# Altium schematic symbol library CamContr.SCHLIB: 42 symbols
Pins are listed as number, name and electrical type; pins without a type are passive.

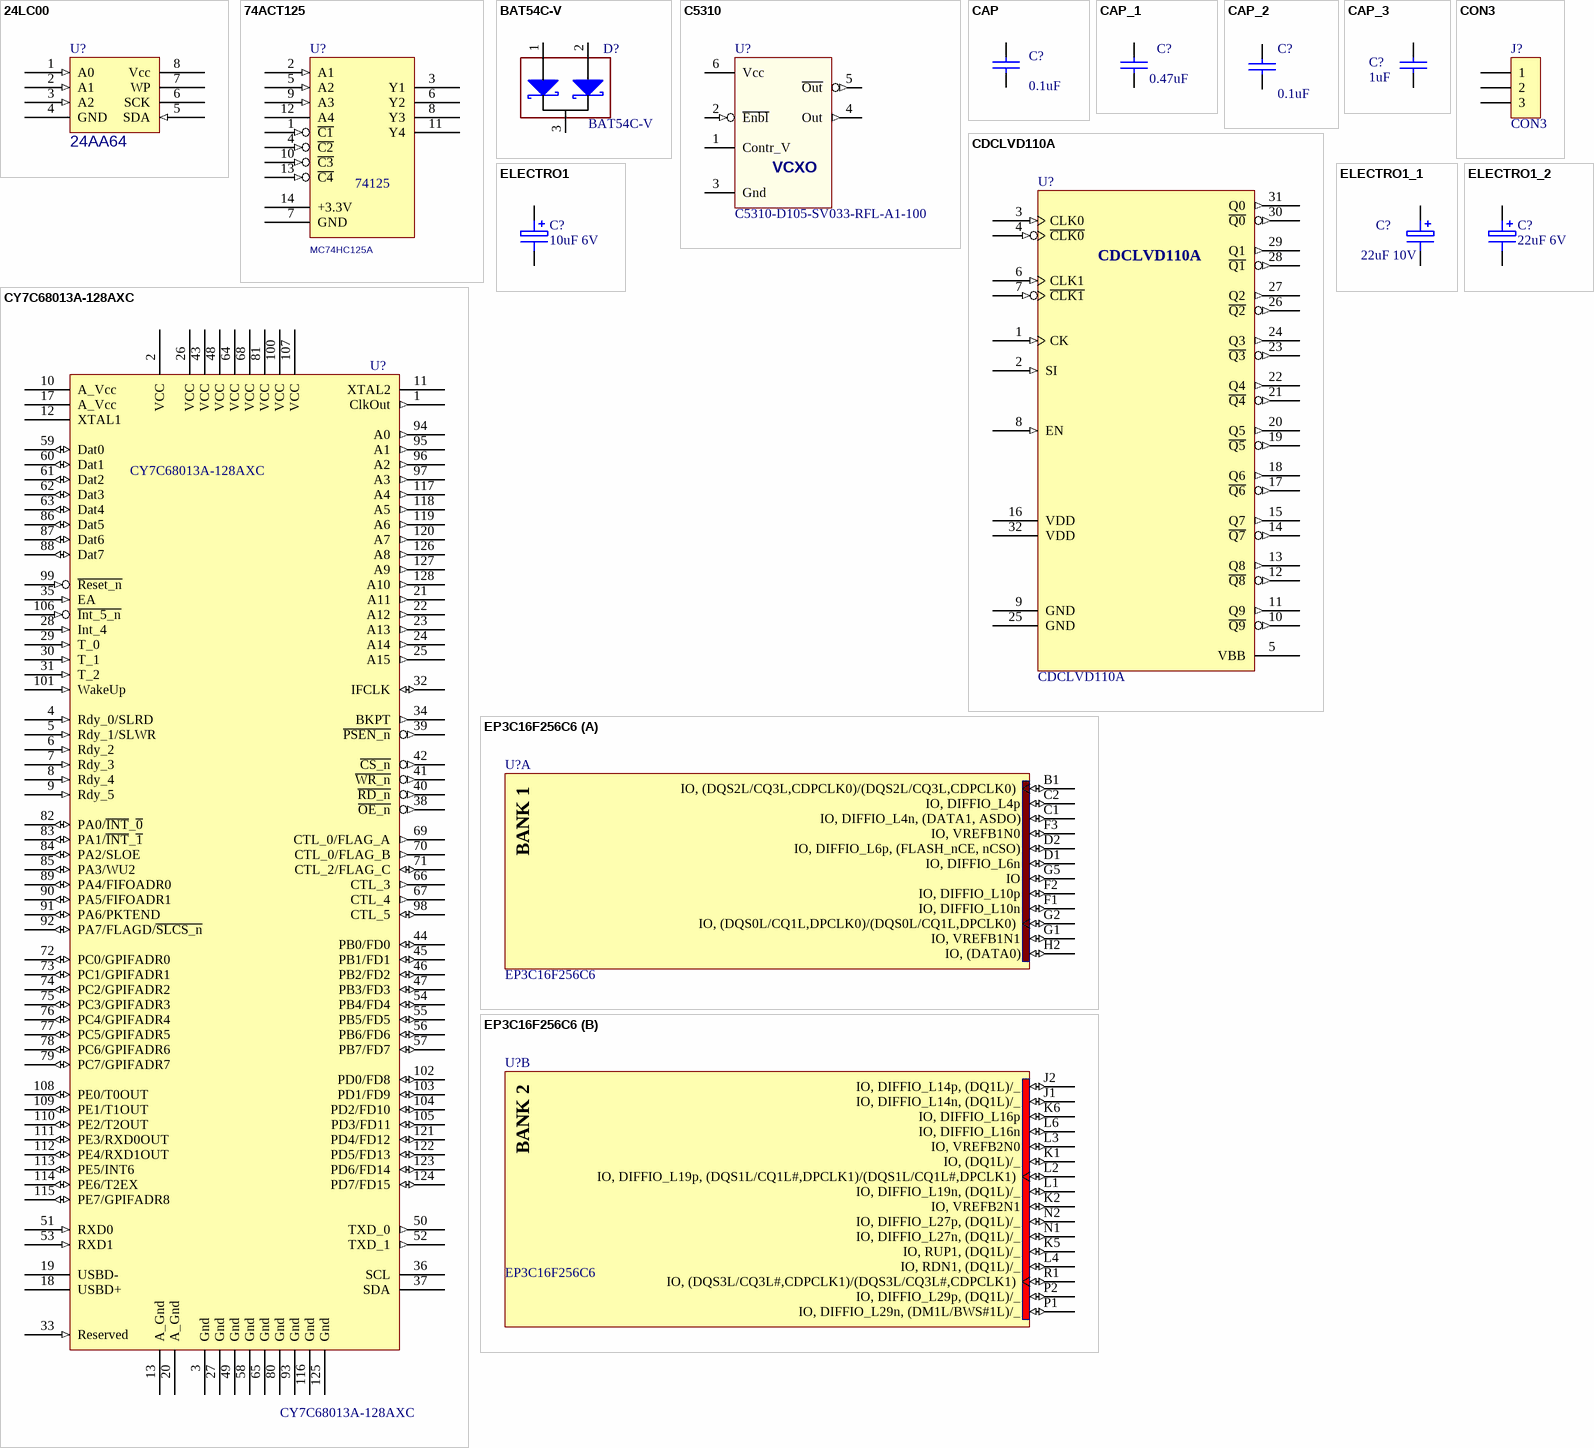
[diagram p0: symbols 24LC00 to EP3C16F256C6]

## 24LC00
designator U?, comment 24AA64
footprint DIP-8
pins: 1 A0 (in), 2 A1 (in), 3 A2 (in), 4 GND (power), 5 SDA (in), 6 SCK, 7 WP, 8 Vcc (power)

## 74ACT125
designator U?, comment MC74HC125A
footprint SO-14
pins: 1 ~{C1} (in), 2 A1 (in), 3 Y1 (hiz), 4 ~{C2} (in), 5 A2 (in), 6 Y2 (hiz), 7 GND (power), 8 Y3 (hiz), 9 A3 (in), 10 ~{C3} (in), 11 Y4 (hiz), 12 A4, 13 ~{C4} (in), 14 +3.3V (power)
text: 74125

## BAT54C-V
designator D?
footprint BAT54C-V (Footprint not found)
pins: 1, 2, 3

## C5310
designator U?, comment C5310-D105-SV033-RFL-A1-100
footprint G218B (Footprint not found)
pins: 1 Contr_V, 2 ~{Enbl} (in), 3 Gnd (power), 4 Out (out), 5 ~{Out} (out), 6 Vcc (power)
text: VCXO

## CAP
designator C?, comment 0.1uF
footprint 0603 (Footprint not found)
pins: 1, 2

## CAP_1
designator C?, comment 0.47uF
footprint 0805
pins: 1, 2

## CAP_2
designator C?, comment 0.1uF
Capacitor
footprint 0603 (Footprint not found)
pins: 1, 2

## CAP_3
designator C?, comment 1uF
Capacitor
footprint 1206
pins: 1, 2

## CDCLVD110A
designator U?
footprint S-PQFP-G32 (Footprint not found)
pins: 1 CK (in), 2 SI (in), 3 CLK0 (in), 4 ~{CLK0} (in), 5 VBB, 6 CLK1 (in), 7 ~{CLK1} (in), 8 EN (in), 9 GND (power), 10 ~{Q9} (out), 11 Q9 (out), 12 ~{Q8} (out), 13 Q8 (out), 14 ~{Q7} (out), 15 Q7 (out), 16 VDD (power), 17 ~{Q6} (out), 18 Q6 (out), 19 ~{Q5} (out), 20 Q5 (out), 21 ~{Q4} (out), 22 Q4 (out), 23 ~{Q3} (out), 24 Q3 (out), 25 GND (power), 26 ~{Q2} (out), 27 Q2 (out), 28 ~{Q1} (out), 29 Q1 (out), 30 ~{Q0} (out), 31 Q0 (out), 32 VDD (power)

## CON3
designator J?
Connector
footprint Header-3x1
pins: 1, 2, 3

## CY7C68013A-128AXC
designator U?
footprint PQFP-128 (Footprint not found)
pins: 1 ClkOut (out), 2 VCC (power), 3 Gnd (power), 4 Rdy_0/SLRD (in), 5 Rdy_1/SLWR (in), 6 Rdy_2 (in), 7 Rdy_3 (in), 8 Rdy_4 (in), 9 Rdy_5 (in), 10 A_Vcc (power), 11 XTAL2, 12 XTAL1, 13 A_Gnd (power), 17 A_Vcc (power), 18 USBD+, 19 USBD-, 20 A_Gnd (power), 21 A11 (out), 22 A12 (out), 23 A13 (out), 24 A14 (out), 25 A15 (out), 26 VCC (power), 27 Gnd (power), 28 Int_4 (in), 29 T_0 (in), 30 T_1 (in), 31 T_2 (in), 32 IFCLK (io), 33 Reserved (in), 34 BKPT (out), 35 EA (in), 36 SCL (oc), 37 SDA (oc), 38 ~{OE_n} (out), 39 ~{PSEN_n} (out), 40 ~{RD_n} (out), 41 ~{WR_n} (out), 42 ~{CS_n} (out), 43 VCC (power), 44 PB0/FD0 (io), 45 PB1/FD1 (io), 46 PB2/FD2 (io), 47 PB3/FD3 (io), 48 VCC (power), 49 Gnd (power), 50 TXD_0 (out), 51 RXD0 (in), 52 TXD_1 (out), 53 RXD1 (in), 54 PB4/FD4 (io), 55 PB5/FD5 (io), 56 PB6/FD6 (io), 57 PB7/FD7 (io), 58 Gnd (power), 59 Dat0 (io), 60 Dat1 (io), 61 Dat2 (io), 62 Dat3 (io), 63 Dat4 (io), 64 VCC (power), 65 Gnd (power), 66 CTL_3 (out), 67 CTL_4 (out), 68 VCC (power), 69 CTL_0/FLAG_A (out), 70 CTL_0/FLAG_B (out), 71 CTL_2/FLAG_C (io), 72 PC0/GPIFADR0 (io), 73 PC1/GPIFADR1 (io), 74 PC2/GPIFADR2 (io), 75 PC3/GPIFADR3 (io), 76 PC4/GPIFADR4 (io), 77 PC5/GPIFADR5 (io), 78 PC6/GPIFADR6 (io), 79 PC7/GPIFADR7 (io), 80 Gnd (power), 81 VCC (power), 82 PA0/~{INT}_~{0} (io), 83 PA1/~{INT}_~{1} (io), 84 PA2/SLOE (io), 85 PA3/WU2 (io), 86 Dat5 (io), 87 Dat6 (io), 88 Dat7 (io), 89 PA4/FIFOADR0 (io), 90 PA5/FIFOADR1 (io), 91 PA6/PKTEND (io), 92 PA7/FLAGD/~{SLCS_n} (io), 93 Gnd (power), 94 A0 (out), 95 A1 (out), 96 A2 (out), 97 A3 (out), 98 CTL_5 (io), 99 ~{Reset_n} (in), 100 VCC (power), 101 WakeUp (in), 102 PD0/FD8 (io), 103 PD1/FD9 (io), 104 PD2/FD10 (io), 105 PD3/FD11 (io), 106 ~{Int_5_n} (in), 107 VCC (power), 108 PE0/T0OUT (io), 109 PE1/T1OUT (io), 110 PE2/T2OUT (io), 111 PE3/RXD0OUT (io), 112 PE4/RXD1OUT (io), 113 PE5/INT6 (io), 114 PE6/T2EX (io), 115 PE7/GPIFADR8 (io), 116 Gnd (power), 117 A4 (out), 118 A5 (out), 119 A6 (out), 120 A7 (out), 121 PD4/FD12 (io), 122 PD5/FD13 (io), 123 PD6/FD14 (io), 124 PD7/FD15 (io), 125 Gnd (power), 126 A8 (out), 127 A9 (out), 128 A10 (out)

## ELECTRO1
designator C?, comment 10uF 6V
footprint size a (Footprint not found)
pins: 1, 2

## ELECTRO1_1
designator C?, comment 22uF 10V
footprint Size B
pins: 1, 2

## ELECTRO1_2
designator C?, comment 22uF 6V
footprint B-Size (Footprint not found)
pins: 1, 2

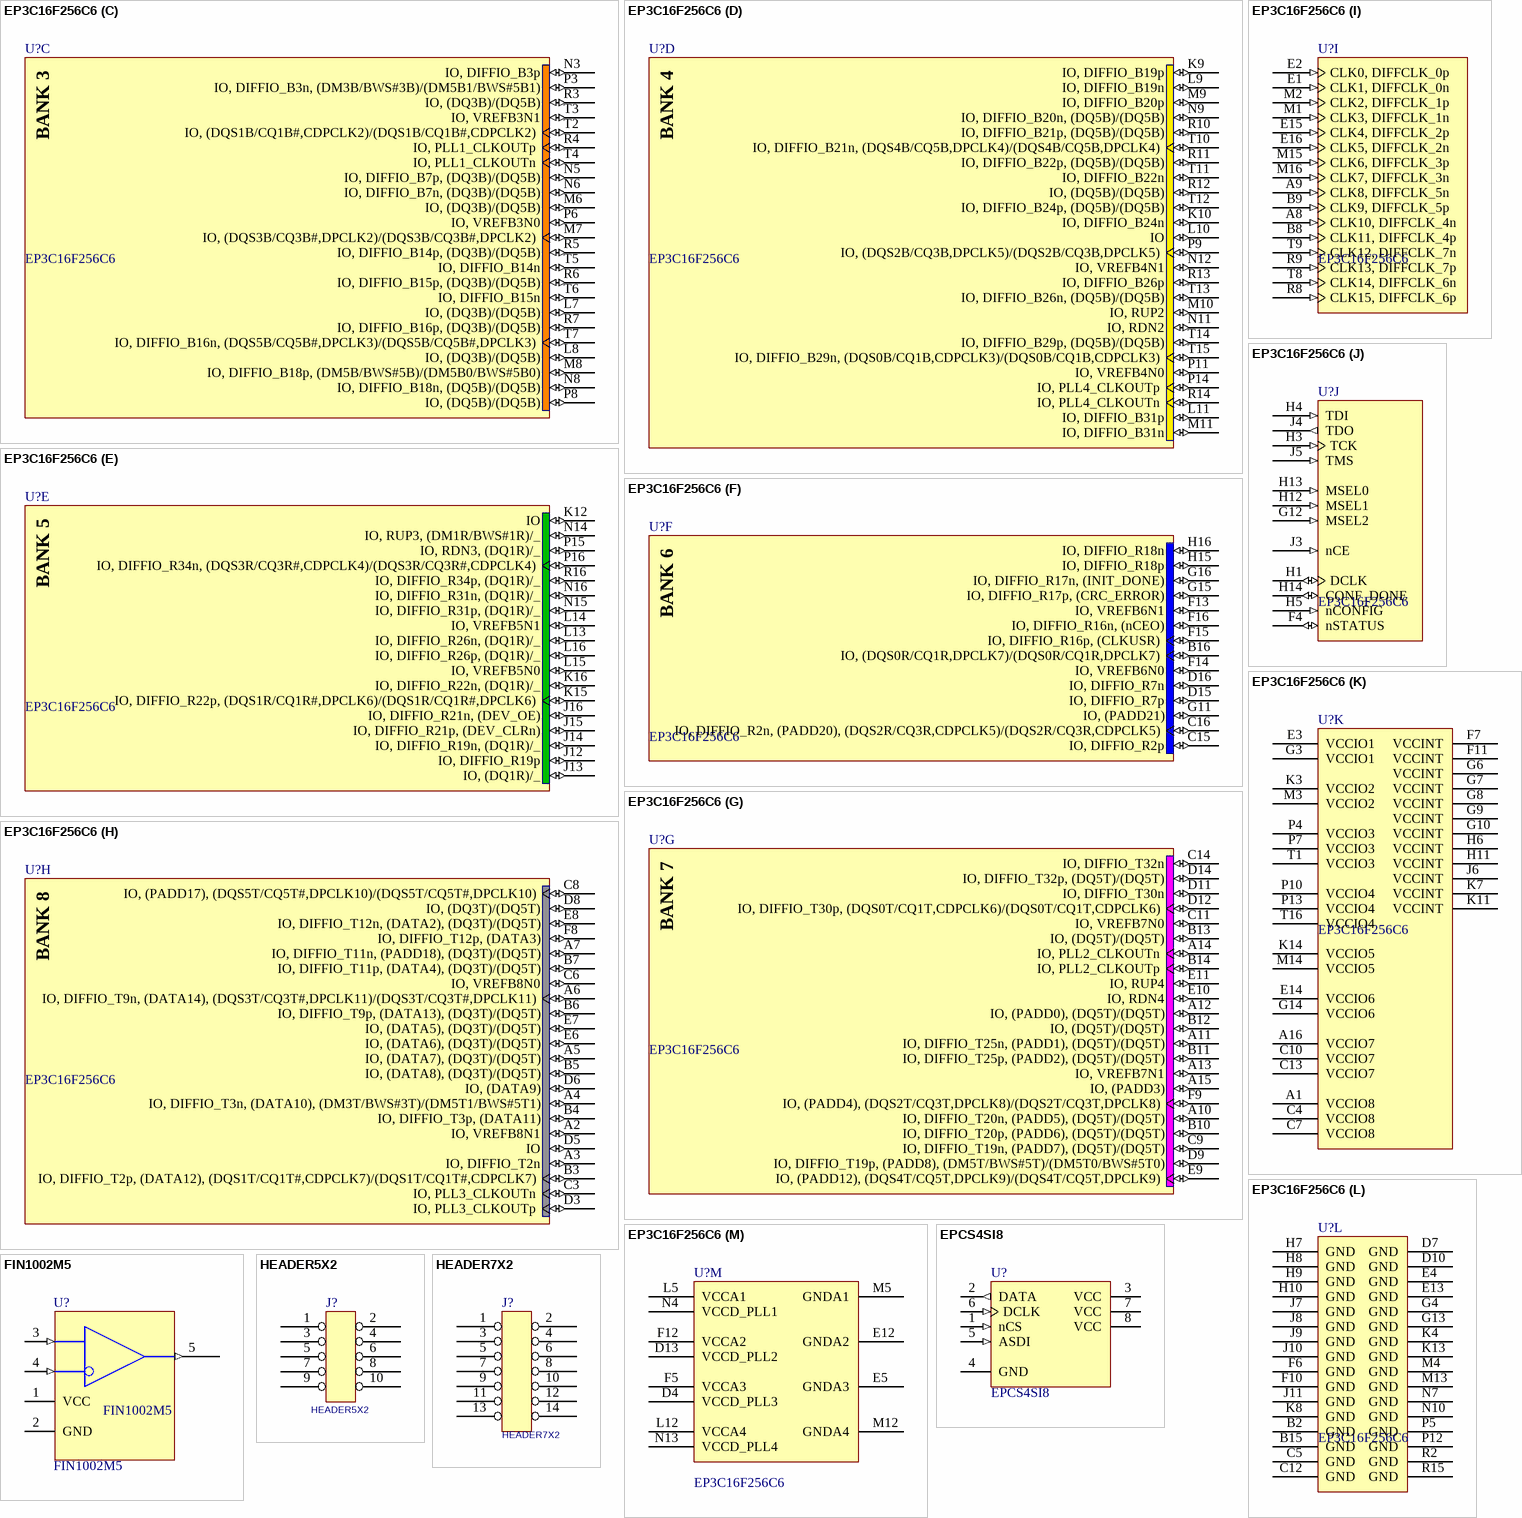
[diagram p1: symbols EP3C16F256C6 to HEADER7X2]

## EP3C16F256C6
designator U?
Cyclone III Family FPGA, 152 I/O Pins, 4 PLLs, 256-Pin FBGA, Speed Grade 6, Commercial Grade; Published: 26-Feb-2007; PackageVersion: ver14.5, Dec-2006; PackageReference: FBGA256-2; Publisher: Altium Limited; PackageDescription: 256-Ball FineLine Ball Grid Array (FBGA256) - Option 2 - Wire Bond; Code_JEDEC: MO-192-DAF-1; ComponentLink1Description: Manufacturer Link; ComponentLink1URL: http://www.altera.com/
footprint FBGA256-2 (BGA, 256-Leads, Body 17x17mm, Pitch 1mm)
3D model EP3C16-FBGA256-2 (256-Ball FineLine Ball Grid Array (FBGA256) - Option 2 - Wire Bond)
signal-integrity model EP3C16_F256-2 (Cyclone III)
part A pins: B1 IO, (DQS2L/CQ3L,CDPCLK0)/(DQS2L/CQ3L,CDPCLK0) (io), C1 IO, DIFFIO_L4n, (DATA1, ASDO) (io), C2 IO, DIFFIO_L4p (io), D1 IO, DIFFIO_L6n (io), D2 IO, DIFFIO_L6p, (FLASH_nCE, nCSO) (io), F1 IO, DIFFIO_L10n (io), F2 IO, DIFFIO_L10p (io), F3 IO, VREFB1N0 (io), G1 IO, VREFB1N1 (io), G2 IO, (DQS0L/CQ1L,DPCLK0)/(DQS0L/CQ1L,DPCLK0) (io), G5 IO (io), H2 IO, (DATA0) (io)
part B pins: J1 IO, DIFFIO_L14n, (DQ1L)/_ (io), J2 IO, DIFFIO_L14p, (DQ1L)/_ (io), K1 IO, (DQ1L)/_ (io), K2 IO, VREFB2N1 (io), K5 IO, RUP1, (DQ1L)/_ (io), K6 IO, DIFFIO_L16p (io), L1 IO, DIFFIO_L19n, (DQ1L)/_ (io), L2 IO, DIFFIO_L19p, (DQS1L/CQ1L#,DPCLK1)/(DQS1L/CQ1L#,DPCLK1) (io), L3 IO, VREFB2N0 (io), L4 IO, RDN1, (DQ1L)/_ (io), L6 IO, DIFFIO_L16n (io), N1 IO, DIFFIO_L27n, (DQ1L)/_ (io), N2 IO, DIFFIO_L27p, (DQ1L)/_ (io), P1 IO, DIFFIO_L29n, (DM1L/BWS#1L)/_ (io), P2 IO, DIFFIO_L29p, (DQ1L)/_ (io), R1 IO, (DQS3L/CQ3L#,CDPCLK1)/(DQS3L/CQ3L#,CDPCLK1) (io)
part C pins: L7 IO, (DQ3B)/(DQ5B) (io), L8 IO, (DQ3B)/(DQ5B) (io), M6 IO, (DQ3B)/(DQ5B) (io), M7 IO, (DQS3B/CQ3B#,DPCLK2)/(DQS3B/CQ3B#,DPCLK2) (io), M8 IO, DIFFIO_B18p, (DM5B/BWS#5B)/(DM5B0/BWS#5B0) (io), N3 IO, DIFFIO_B3p (io), N5 IO, DIFFIO_B7p, (DQ3B)/(DQ5B) (io), N6 IO, DIFFIO_B7n, (DQ3B)/(DQ5B) (io), N8 IO, DIFFIO_B18n, (DQ5B)/(DQ5B) (io), P3 IO, DIFFIO_B3n, (DM3B/BWS#3B)/(DM5B1/BWS#5B1) (io), P6 IO, VREFB3N0 (io), P8 IO, (DQ5B)/(DQ5B) (io), R3 IO, (DQ3B)/(DQ5B) (io), R4 IO, PLL1_CLKOUTp (io), R5 IO, DIFFIO_B14p, (DQ3B)/(DQ5B) (io), R6 IO, DIFFIO_B15p, (DQ3B)/(DQ5B) (io), R7 IO, DIFFIO_B16p, (DQ3B)/(DQ5B) (io), T2 IO, (DQS1B/CQ1B#,CDPCLK2)/(DQS1B/CQ1B#,CDPCLK2) (io), T3 IO, VREFB3N1 (io), T4 IO, PLL1_CLKOUTn (io), T5 IO, DIFFIO_B14n (io), T6 IO, DIFFIO_B15n (io), T7 IO, DIFFIO_B16n, (DQS5B/CQ5B#,DPCLK3)/(DQS5B/CQ5B#,DPCLK3) (io)
part D pins: K9 IO, DIFFIO_B19p (io), K10 IO, DIFFIO_B24n (io), L9 IO, DIFFIO_B19n (io), L10 IO (io), L11 IO, DIFFIO_B31p (io), M9 IO, DIFFIO_B20p (io), M10 IO, RUP2 (io), M11 IO, DIFFIO_B31n (io), N9 IO, DIFFIO_B20n, (DQ5B)/(DQ5B) (io), N11 IO, RDN2 (io), N12 IO, VREFB4N1 (io), P9 IO, (DQS2B/CQ3B,DPCLK5)/(DQS2B/CQ3B,DPCLK5) (io), P11 IO, VREFB4N0 (io), P14 IO, PLL4_CLKOUTp (io), R10 IO, DIFFIO_B21p, (DQ5B)/(DQ5B) (io), R11 IO, DIFFIO_B22p, (DQ5B)/(DQ5B) (io), R12 IO, (DQ5B)/(DQ5B) (io), R13 IO, DIFFIO_B26p (io), R14 IO, PLL4_CLKOUTn (io), T10 IO, DIFFIO_B21n, (DQS4B/CQ5B,DPCLK4)/(DQS4B/CQ5B,DPCLK4) (io), T11 IO, DIFFIO_B22n (io), T12 IO, DIFFIO_B24p, (DQ5B)/(DQ5B) (io), T13 IO, DIFFIO_B26n, (DQ5B)/(DQ5B) (io), T14 IO, DIFFIO_B29p, (DQ5B)/(DQ5B) (io), T15 IO, DIFFIO_B29n, (DQS0B/CQ1B,CDPCLK3)/(DQS0B/CQ1B,CDPCLK3) (io)
part E pins: J12 IO, DIFFIO_R19p (io), J13 IO, (DQ1R)/_ (io), J14 IO, DIFFIO_R19n, (DQ1R)/_ (io), J15 IO, DIFFIO_R21p, (DEV_CLRn) (io), J16 IO, DIFFIO_R21n, (DEV_OE) (io), K12 IO (io), K15 IO, DIFFIO_R22p, (DQS1R/CQ1R#,DPCLK6)/(DQS1R/CQ1R#,DPCLK6) (io), K16 IO, DIFFIO_R22n, (DQ1R)/_ (io), L13 IO, DIFFIO_R26n, (DQ1R)/_ (io), L14 IO, VREFB5N1 (io), L15 IO, VREFB5N0 (io), L16 IO, DIFFIO_R26p, (DQ1R)/_ (io), N14 IO, RUP3, (DM1R/BWS#1R)/_ (io), N15 IO, DIFFIO_R31p, (DQ1R)/_ (io), N16 IO, DIFFIO_R31n, (DQ1R)/_ (io), P15 IO, RDN3, (DQ1R)/_ (io), P16 IO, DIFFIO_R34n, (DQS3R/CQ3R#,CDPCLK4)/(DQS3R/CQ3R#,CDPCLK4) (io), R16 IO, DIFFIO_R34p, (DQ1R)/_ (io)
part F pins: B16 IO, (DQS0R/CQ1R,DPCLK7)/(DQS0R/CQ1R,DPCLK7) (io), C15 IO, DIFFIO_R2p (io), C16 IO, DIFFIO_R2n, (PADD20), (DQS2R/CQ3R,CDPCLK5)/(DQS2R/CQ3R,CDPCLK5) (io), D15 IO, DIFFIO_R7p (io), D16 IO, DIFFIO_R7n (io), F13 IO, VREFB6N1 (io), F14 IO, VREFB6N0 (io), F15 IO, DIFFIO_R16p, (CLKUSR) (io), F16 IO, DIFFIO_R16n, (nCEO) (io), G11 IO, (PADD21) (io), G15 IO, DIFFIO_R17p, (CRC_ERROR) (io), G16 IO, DIFFIO_R17n, (INIT_DONE) (io), H15 IO, DIFFIO_R18p (io), H16 IO, DIFFIO_R18n (io)
part G pins: A10 IO, DIFFIO_T20n, (PADD5), (DQ5T)/(DQ5T) (io), A11 IO, DIFFIO_T25n, (PADD1), (DQ5T)/(DQ5T) (io), A12 IO, (PADD0), (DQ5T)/(DQ5T) (io), A13 IO, VREFB7N1 (io), A14 IO, PLL2_CLKOUTn (io), A15 IO, (PADD3) (io), B10 IO, DIFFIO_T20p, (PADD6), (DQ5T)/(DQ5T) (io), B11 IO, DIFFIO_T25p, (PADD2), (DQ5T)/(DQ5T) (io), B12 IO, (DQ5T)/(DQ5T) (io), B13 IO, (DQ5T)/(DQ5T) (io), B14 IO, PLL2_CLKOUTp (io), C9 IO, DIFFIO_T19n, (PADD7), (DQ5T)/(DQ5T) (io), C11 IO, VREFB7N0 (io), C14 IO, DIFFIO_T32n (io), D9 IO, DIFFIO_T19p, (PADD8), (DM5T/BWS#5T)/(DM5T0/BWS#5T0) (io), D11 IO, DIFFIO_T30n (io), D12 IO, DIFFIO_T30p, (DQS0T/CQ1T,CDPCLK6)/(DQS0T/CQ1T,CDPCLK6) (io), D14 IO, DIFFIO_T32p, (DQ5T)/(DQ5T) (io), E9 IO, (PADD12), (DQS4T/CQ5T,DPCLK9)/(DQS4T/CQ5T,DPCLK9) (io), E10 IO, RDN4 (io), E11 IO, RUP4 (io), F9 IO, (PADD4), (DQS2T/CQ3T,DPCLK8)/(DQS2T/CQ3T,DPCLK8) (io)
part H pins: A2 IO, VREFB8N1 (io), A3 IO, DIFFIO_T2n (io), A4 IO, DIFFIO_T3n, (DATA10), (DM3T/BWS#3T)/(DM5T1/BWS#5T1) (io), A5 IO, (DATA7), (DQ3T)/(DQ5T) (io), A6 IO, DIFFIO_T9n, (DATA14), (DQS3T/CQ3T#,DPCLK11)/(DQS3T/CQ3T#,DPCLK11) (io), A7 IO, DIFFIO_T11n, (PADD18), (DQ3T)/(DQ5T) (io), B3 IO, DIFFIO_T2p, (DATA12), (DQS1T/CQ1T#,CDPCLK7)/(DQS1T/CQ1T#,CDPCLK7) (io), B4 IO, DIFFIO_T3p, (DATA11) (io), B5 IO, (DATA8), (DQ3T)/(DQ5T) (io), B6 IO, DIFFIO_T9p, (DATA13), (DQ3T)/(DQ5T) (io), B7 IO, DIFFIO_T11p, (DATA4), (DQ3T)/(DQ5T) (io), C3 IO, PLL3_CLKOUTn (io), C6 IO, VREFB8N0 (io), C8 IO, (PADD17), (DQS5T/CQ5T#,DPCLK10)/(DQS5T/CQ5T#,DPCLK10) (io), D3 IO, PLL3_CLKOUTp (io), D5 IO (io), D6 IO, (DATA9) (io), D8 IO, (DQ3T)/(DQ5T) (io), E6 IO, (DATA6), (DQ3T)/(DQ5T) (io), E7 IO, (DATA5), (DQ3T)/(DQ5T) (io), E8 IO, DIFFIO_T12n, (DATA2), (DQ3T)/(DQ5T) (io), F8 IO, DIFFIO_T12p, (DATA3) (io)
part I pins: A8 CLK10, DIFFCLK_4n (in), A9 CLK8, DIFFCLK_5n (in), B8 CLK11, DIFFCLK_4p (in), B9 CLK9, DIFFCLK_5p (in), E1 CLK1, DIFFCLK_0n (in), E2 CLK0, DIFFCLK_0p (in), E15 CLK4, DIFFCLK_2p (in), E16 CLK5, DIFFCLK_2n (in), M1 CLK3, DIFFCLK_1n (in), M2 CLK2, DIFFCLK_1p (in), M15 CLK6, DIFFCLK_3p (in), M16 CLK7, DIFFCLK_3n (in), R8 CLK15, DIFFCLK_6p (in), R9 CLK13, DIFFCLK_7p (in), T8 CLK14, DIFFCLK_6n (in), T9 CLK12, DIFFCLK_7n (in)
part J pins: F4 nSTATUS (io), G12 MSEL2 (in), H1 DCLK (io), H3 TCK (in), H4 TDI (in), H5 nCONFIG (in), H12 MSEL1 (in), H13 MSEL0 (in), H14 CONF_DONE (io), J3 nCE (in), J4 TDO (out), J5 TMS (in)
part K pins: A1 VCCIO8 (power), A16 VCCIO7 (power), C4 VCCIO8 (power), C7 VCCIO8 (power), C10 VCCIO7 (power), C13 VCCIO7 (power), E3 VCCIO1 (power), E14 VCCIO6 (power), F7 VCCINT (power), F11 VCCINT (power), G3 VCCIO1 (power), G6 VCCINT (power), G7 VCCINT (power), G8 VCCINT (power), G9 VCCINT (power), G10 VCCINT (power), G14 VCCIO6 (power), H6 VCCINT (power), H11 VCCINT (power), J6 VCCINT (power), K3 VCCIO2 (power), K7 VCCINT (power), K11 VCCINT (power), K14 VCCIO5 (power), M3 VCCIO2 (power), M14 VCCIO5 (power), P4 VCCIO3 (power), P7 VCCIO3 (power), P10 VCCIO4 (power), P13 VCCIO4 (power), T1 VCCIO3 (power), T16 VCCIO4 (power)
part L pins: B2 GND (power), B15 GND (power), C5 GND (power), C12 GND (power), D7 GND (power), D10 GND (power), E4 GND (power), E13 GND (power), F6 GND (power), F10 GND (power), G4 GND (power), G13 GND (power), H7 GND (power), H8 GND (power), H9 GND (power), H10 GND (power), J7 GND (power), J8 GND (power), J9 GND (power), J10 GND (power), J11 GND (power), K4 GND (power), K8 GND (power), K13 GND (power), M4 GND (power), M13 GND (power), N7 GND (power), N10 GND (power), P5 GND (power), P12 GND (power), R2 GND (power), R15 GND (power)
part M pins: D4 VCCD_PLL3 (power), D13 VCCD_PLL2 (power), E5 GNDA3 (power), E12 GNDA2 (power), F5 VCCA3 (power), F12 VCCA2 (power), L5 VCCA1 (power), L12 VCCA4 (power), M5 GNDA1 (power), M12 GNDA4 (power), N4 VCCD_PLL1 (power), N13 VCCD_PLL4 (power)
part A text: BANK 1
part B text: BANK 2
part C text: BANK 3
part D text: BANK 4
part E text: BANK 5
part F text: BANK 6
part G text: BANK 7
part H text: BANK 8

## EPCS4SI8
designator U?
EPCS4 Series, In-system programmable 3.3V serial configuration device, 8-Pin SOIC, 4-Megabit, Industrial Grade; Configures: Cyclone II, Stratix II, & Cyclone Devices; Published: 17-Sep-2003; LatestRevisionDate: 13-Apr-2006; LatestRevisionNote: IPC-7351 Footprint Added.; DatasheetVersion: ver2.0, Oct-2003; PackageVersion: ver13.0, May-2005; PackageReference: SOIC8; Publisher: Altium Limited; PackageDescription: 8-Pin Small Outline Integrated Circuit Package (SOIC8); Code_JEDEC: MS-012-AA; Code_IPC: SOIC127P600-8; ComponentLink1Description: Manufacturer Link; ComponentLink1URL: http://www.altera.com/products/devices/config/cfg-index.html; ComponentLink2Description: Configuration Handbook; ComponentLink2URL: http://www.altera.com/literature/hb/cfg/config_handbook.pdf; ComponentLink3Description: Pinout Specification; ComponentLink3URL: http://www.altera.com/literature/hb/cfg/cyc_c51014.pdf; ComponentLink4Description: Packaging Specification; ComponentLink4URL: http://www.altera.com/literature/ds/dspkg.pdf
footprint SOIC8_N (SOIC, 8-Leads, Body 4.9x3.9mm, Pitch 1.27mm, IPC Medium Density)
footprint SOIC8_L (SOIC, 8-Leads, Body 4.9x3.9mm, Pitch 1.27mm, IPC High Density)
footprint SOIC8_M (SOIC, 8-Leads, Body 4.9x3.9mm, Pitch 1.27mm, IPC Low Density)
3D model SOIC8 (8-Pin Small Outline Integrated Circuit Package (SOIC8))
pins: 1 nCS (in) "Active low, chip select input", 2 DATA (out) "Serial data out", 3 VCC (power) "3.3V supply", 4 GND (power) "Ground", 5 ASDI (in) "AS data in", 6 DCLK (in) "Provides timing of the serial interface", 7 VCC (power) "3.3V supply", 8 VCC (power) "3.3V supply"

## FIN1002M5
designator U?
footprint SOT-23 5 (Footprint not found)
pins: 1 VCC (power), 2 GND (power), 3 RI+ (in), 4 RI- (in), 5 ROUT (out)

## HEADER5X2
designator J?
footprint HEADER5X2
pins: 1, 2, 3, 4, 5, 6, 7, 8, 9, 10

## HEADER7X2
designator J?
footprint HEADER7X2 vert. bare
pins: 1, 2, 3, 4, 5, 6, 7, 8, 9, 10, 11, 12, 13, 14

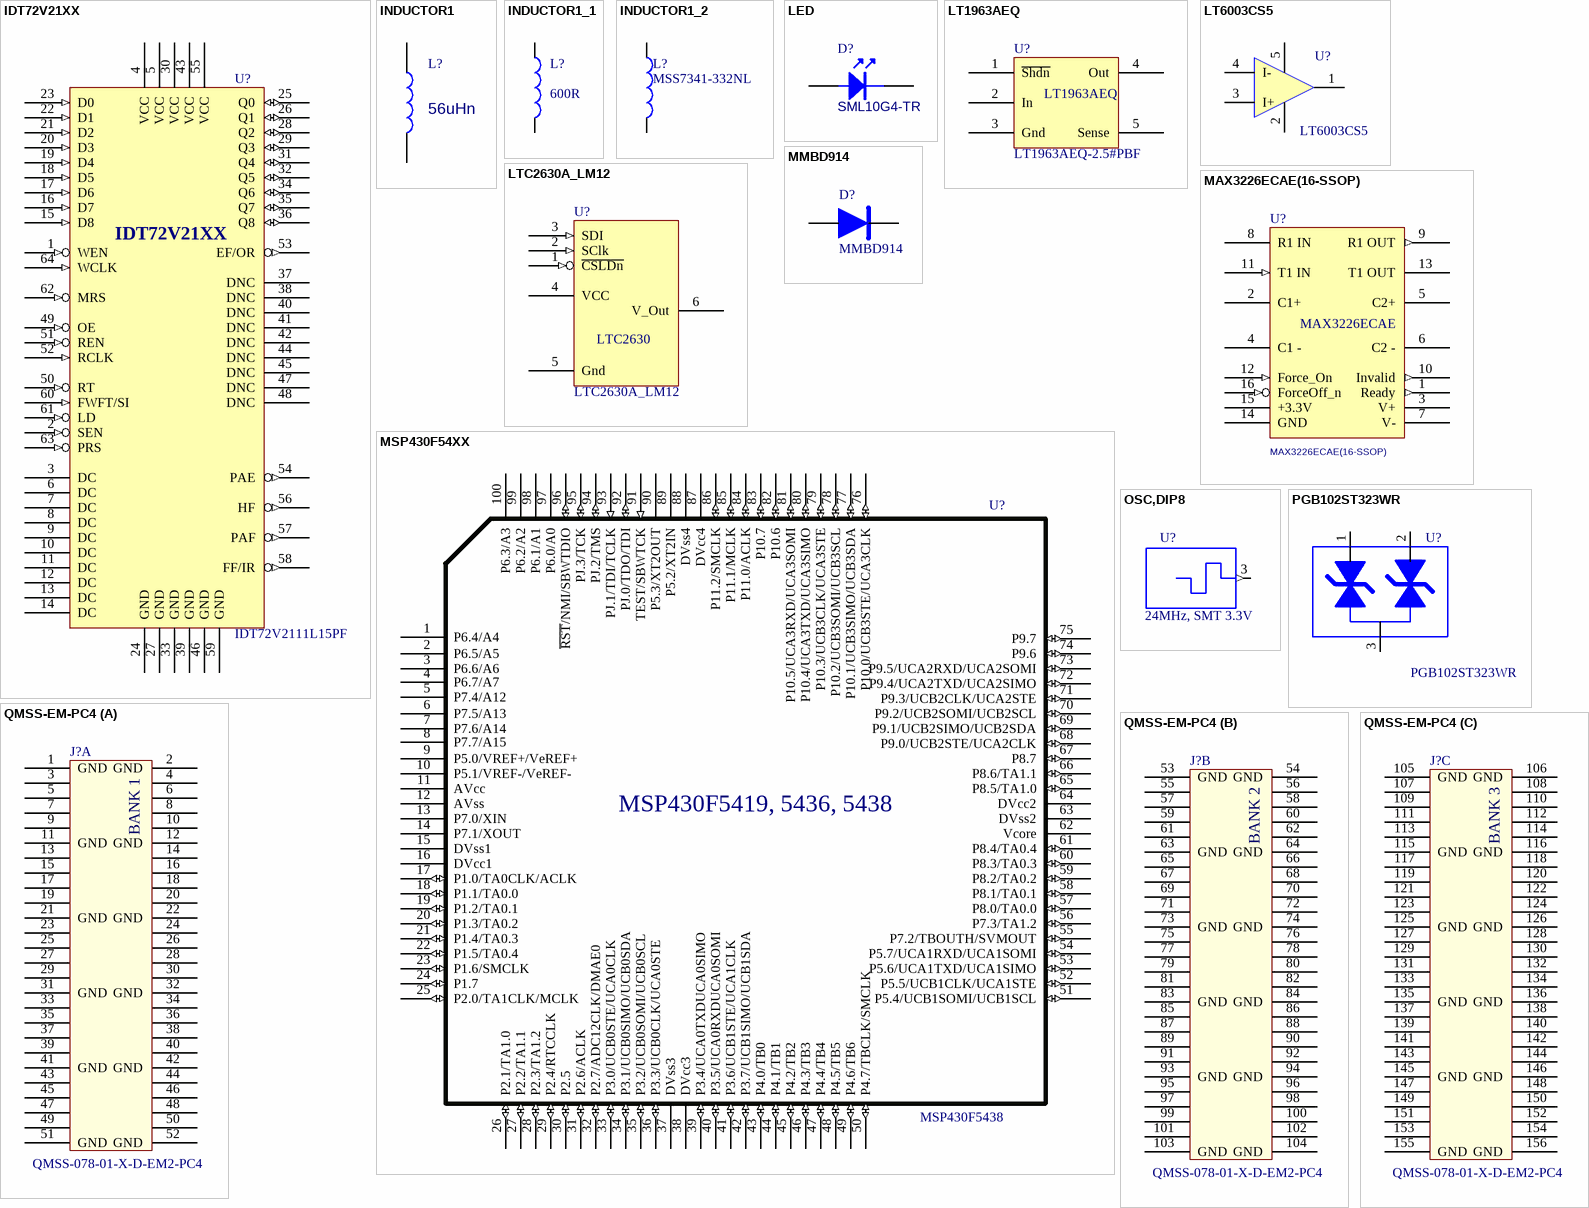
[diagram p2: symbols IDT72V21XX to QMSS-EM-PC4]

## IDT72V21XX
designator U?, comment IDT72V2111L15PF
footprint TQFP64 (Footprint not found)
pins: 1 WEN (in), 2 SEN (in), 3 DC, 4 VCC (power), 5 VCC (power), 6 DC, 7 DC, 8 DC, 9 DC, 10 DC, 11 DC, 12 DC, 13 DC, 14 DC, 15 D8 (in), 16 D7 (in), 17 D6 (in), 18 D5 (in), 19 D4 (in), 20 D3 (in), 21 D2 (in), 22 D1 (in), 23 D0 (in), 24 GND (power), 25 Q0 (io), 26 Q1 (io), 27 GND (power), 28 Q2 (io), 29 Q3 (io), 30 VCC (power), 31 Q4 (io), 32 Q5 (io), 33 GND (power), 34 Q6 (io), 35 Q7 (io), 36 Q8 (io), 37 DNC, 38 DNC, 39 GND (power), 40 DNC, 41 DNC, 42 DNC, 43 VCC (power), 44 DNC, 45 DNC, 46 GND (power), 47 DNC, 48 DNC, 49 OE (in), 50 RT (in), 51 REN (in), 52 RCLK (in), 53 EF/OR (out), 54 PAE (out), 55 VCC (power), 56 HF (out), 57 PAF (out), 58 FF/IR (out), 59 GND (power), 60 FWFT/SI (in), 61 LD (in), 62 MRS (in), 63 PRS (in), 64 WCLK (in)

## INDUCTOR1
designator L?, comment 56uHn
footprint 1812
pins: 1, 2

## INDUCTOR1_1
designator L?, comment 600R
footprint 1206
pins: 1, 2

## INDUCTOR1_2
designator L?, comment MSS7341-332NL
footprint MSS7341 (Footprint not found)
pins: 1, 2

## LED
designator D?, comment SML10G4-TR
LED
footprint 1206
pins: A 1, K 2

## LT1963AEQ
designator U?, comment LT1963AEQ-2.5#PBF
footprint 5-Lead Plastic DD-PAK (Footprint not found)
pins: 1 ~{Shdn}, 2 In (power), 3 Gnd (power), 4 Out, 5 Sense

## LT6003CS5
designator U?
footprint 5-Lead  TSOT23 (Footprint not found)
pins: 1, 2 (power), 3 I+, 4 I-, 5 (power)

## LTC2630A_LM12
designator U?
footprint SC-70 (Footprint not found)
pins: 1 ~{CSLDn} (in), 2 SClk (in), 3 SDI (in), 4 VCC (power), 5 Gnd (power), 6 V_Out
text: LTC2630

## MAX3226ECAE(16-SSOP)
designator U?
footprint SSOP-16
pins: 1 Ready (out), 2 C1+, 3 V+, 4 C1 -, 5 C2+, 6 C2 -, 7 V-, 8 R1 IN, 9 R1 OUT (out), 10 Invalid (out), 11 T1 IN (in), 12 Force_On (in), 13 T1 OUT, 14 GND (power), 15 +3.3V (power), 16 ForceOff_n (in)
text: MAX3226ECAE

## MMBD914
designator D?
footprint SOT23
pins: 1, 3

## MSP430F54XX
designator U?, comment MSP430F5438
footprint S-PQFP-G100 (Footprint not found)
pins: 1 P6.4/A4, 2 P6.5/A5, 3 P6.6/A6, 4 P6.7/A7, 5 P7.4/A12, 6 P7.5/A13, 7 P7.6/A14, 8 P7.7/A15, 9 P5.0/VREF+/VeREF+, 10 P5.1/VREF-/VeREF-, 11 AVcc (power), 12 AVss (power), 13 P7.0/XIN, 14 P7.1/XOUT, 15 DVss1 (power), 16 DVcc1 (power), 17 P1.0/TA0CLK/ACLK (io), 18 P1.1/TA0.0 (io), 19 P1.2/TA0.1 (io), 20 P1.3/TA0.2 (io), 21 P1.4/TA0.3 (io), 22 P1.5/TA0.4 (io), 23 P1.6/SMCLK (io), 24 P1.7 (io), 25 P2.0/TA1CLK/MCLK (io), 26 P2.1/TA1.0 (io), 27 P2.2/TA1.1 (io), 28 P2.3/TA1.2 (io), 29 P2.4/RTCCLK (io), 30 P2.5 (io), 31 P2.6/ACLK (io), 32 P2.7/ADC12CLK/DMAE0 (io), 33 P3.0/UCB0STE/UCA0CLK (io), 34 P3.1/UCB0SIMO/UCB0SDA (io), 35 P3.2/UCB0SOMI/UCB0SCL (io), 36 P3.3/UCB0CLK/UCA0STE (io), 37 DVss3 (power), 38 DVcc3 (power), 39 P3.4/UCA0TXDUCA0SIMO (io), 40 P3.5/UCA0RXDUCA0SOMI (io), 41 P3.6/UCB1STE/UCA1CLK (io), 42 P3.7/UCB1SIMO/UCB1SDA (io), 43 P4.0/TB0 (io), 44 P4.1/TB1 (io), 45 P4.2/TB2 (io), 46 P4.3/TB3 (io), 47 P4.4/TB4 (io), 48 P4.5/TB5 (io), 49 P4.6/TB6 (io), 50 P4.7/TBCLK/SMCLK (io), 51 P5.4/UCB1SOMI/UCB1SCL (io), 52 P5.5/UCB1CLK/UCA1STE (io), 53 P5.6/UCA1TXD/UCA1SIMO (io), 54 P5.7/UCA1RXD/UCA1SOMI (io), 55 P7.2/TBOUTH/SVMOUT (io), 56 P7.3/TA1.2 (io), 57 P8.0/TA0.0 (io), 58 P8.1/TA0.1 (io), 59 P8.2/TA0.2 (io), 60 P8.3/TA0.3 (io), 61 P8.4/TA0.4 (io), 62 Vcore (power), 63 DVss2 (power), 64 DVcc2 (power), 65 P8.5/TA1.0 (io), 66 P8.6/TA1.1 (io), 67 P8.7 (io), 68 P9.0/UCB2STE/UCA2CLK (io), 69 P9.1/UCB2SIMO/UCB2SDA (io), 70 P9.2/UCB2SOMI/UCB2SCL (io), 71 P9.3/UCB2CLK/UCA2STE (io), 72 P9.4/UCA2TXD/UCA2SIMO (io), 73 P9.5/UCA2RXD/UCA2SOMI (io), 74 P9.6 (io), 75 P9.7 (io), 76 P10.0/UCB3STE/UCA3CLK (io), 77 P10.1/UCB3SIMO/UCB3SDA (io), 78 P10.2/UCB3SOMI/UCB3SCL (io), 79 P10.3/UCB3CLK/UCA3STE (io), 80 P10.4/UCA3TXD/UCA3SIMO (io), 81 P10.5/UCA3RXD/UCA3SOMI (io), 82 P10.6 (io), 83 P10.7 (io), 84 P11.0/ACLK (io), 85 P11.1/MCLK (io), 86 P11.2/SMCLK (io), 87 DVcc4 (power), 88 DVss4 (power), 89 P5.2/XT2IN, 90 P5.3/XT2OUT, 91 TEST/SBWTCK (in), 92 PJ.0/TDO/TDI (io), 93 PJ.1/TDI/TCLK (in), 94 PJ.2/TMS (io), 95 PJ.3/TCK (io), 96 ~{RST}/NMI/SBWTDIO (io), 97 P6.0/A0, 98 P6.1/A1, 99 P6.2/A2, 100 P6.3/A3
text: MSP430F5419, 5436, 5438

## OSC,DIP8
designator U?, comment 24MHz, SMT 3.3V
footprint SMT
pins: 1 VCC (power) hidden to VCC, 2 GND (power) hidden to GND, 3 OUTPUT (out), 4 VCC (power) hidden to VCC

## PGB102ST323WR
designator U?
footprint SOT23 (Footprint not found)
pins: 1, 2, 3

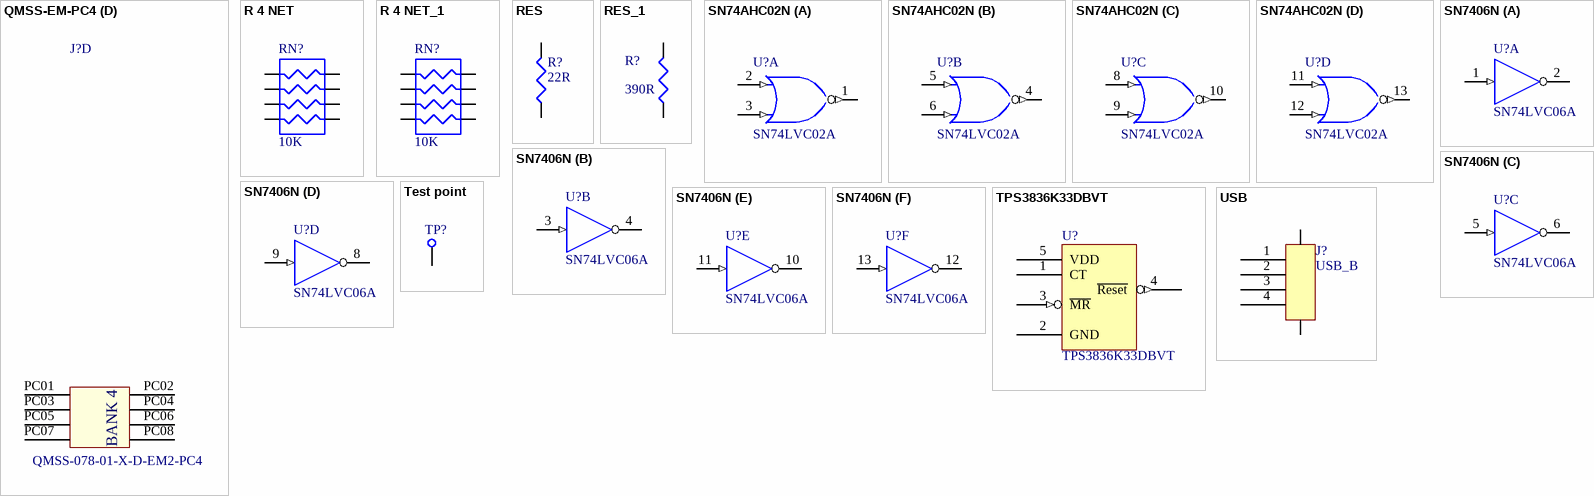
[diagram p3: symbols QMSS-EM-PC4 to USB]

## QMSS-EM-PC4
designator J?, comment QMSS-078-01-X-D-EM2-PC4
SAMTEC QMSS W/PWR PINS
footprint QMS EDGE PWR PINS (78 pos (156 pin) + 8 pwr pins)
part A pins: 1 GND, 2 GND, 3, 4, 5, 6, 7, 8, 9, 10, 11 GND, 12 GND, 13, 14, 15, 16, 17, 18, 19, 20, 21 GND, 22 GND, 23, 24, 25, 26, 27, 28, 29, 30, 31 GND, 32 GND, 33, 34, 35, 36, 37, 38, 39, 40, 41 GND, 42 GND, 43, 44, 45, 46, 47, 48, 49, 50, 51 GND, 52 GND
part B pins: 53 GND, 54 GND, 55, 56, 57, 58, 59, 60, 61, 62, 63 GND, 64 GND, 65, 66, 67, 68, 69, 70, 71, 72, 73 GND, 74 GND, 75, 76, 77, 78, 79, 80, 81, 82, 83 GND, 84 GND, 85, 86, 87, 88, 89, 90, 91, 92, 93 GND, 94 GND, 95, 96, 97, 98, 99, 100, 101, 102, 103 GND, 104 GND
part C pins: 105 GND, 106 GND, 107, 108, 109, 110, 111, 112, 113, 114, 115 GND, 116 GND, 117, 118, 119, 120, 121, 122, 123, 124, 125 GND, 126 GND, 127, 128, 129, 130, 131, 132, 133, 134, 135 GND, 136 GND, 137, 138, 139, 140, 141, 142, 143, 144, 145 GND, 146 GND, 147, 148, 149, 150, 151, 152, 153, 154, 155 GND, 156 GND
part D pins: PC01, PC02, PC03, PC04, PC05, PC06, PC07, PC08
part A text: BANK 1
part B text: BANK 2
part C text: BANK 3
part D text: BANK 4

## R 4 NET
designator RN?, comment 10K
footprint EXB-38V
pins: 1, 2, 3, 4, 5, 6, 7, 8

## R 4 NET_1
designator RN?, comment 10K
footprint EXB-38V
footprint EXB-38V (Footprint not found)
pins: 1, 2, 3, 4, 5, 6, 7, 8

## RES
designator R?, comment 22R
Resistor
simulation model RESISTOR
footprint 0603 (Footprint not found)
pins: 1 TOP, 2 BOT
1 alternate drawing of the same symbol

## RES_1
designator R?, comment 390R
Resistor; Value: 390R
simulation model RESISTOR
footprint 0805 (Footprint not found)
pins: 1 TOP, 2 BOT
1 alternate drawing of the same symbol

## SN74AHC02N
designator U?, comment SN74LVC02A
Quadruple 2-Input Positive-NOR Gate; LatestRevisionDate: 04-Mar-2005; LatestRevisionNote: Stylized 3D Model Added.; Publisher: Altium Limited; ComponentLink1Description: Manufacturer Link; ComponentLink1URL: http://www.ti.com/; ComponentLink2Description: Datasheet; ComponentLink2URL: http://www-s.ti.com/sc/ds/sn74ahc02.pdf; ComponentLink3Description: Packaging Specification; ComponentLink3URL: http://focus.ti.com/lit/ml/mpdi002c/mpdi002c.pdf
footprint SOIC14 (Footprint not found)
pins on every part: 7 GND (power) hidden to GND, 14 VCC (power) hidden to VCC
part A pins: 1 Y (out), 2 A (in), 3 B (in)
part B pins: 4 Y (out), 5 A (in), 6 B (in)
part C pins: 8 A (in), 9 B (in), 10 Y (out)
part D pins: 11 A (in), 12 B (in), 13 Y (out)

## SN7406N
designator U?, comment SN74LVC06A
Hex Inverter Buffer / Driver with High-Voltage Outputs; Published: 8-Jun-2000; LatestRevisionDate: 4-Mar-2005; LatestRevisionNote: Stylized 3D Model Added.; DatasheetDocument: Mar-1988; PackageDocument: Oct-1995; PackageReference: N014; Publisher: Altium Limited; ComponentLink1Description: Manufacturer Link; ComponentLink1URL: http://www.ti.com/
footprint N014 (DIP; 14 Leads; Row Spacing 7.62 mm; Pitch 2.54 mm)
3D model N014 (DIP; 14 Leads; Row Spacing 7.62 mm; Pitch 2.54 mm)
simulation model SN7406 (SIMCODE)
signal-integrity model SN7406N
footprint SOIC-14 (Footprint not found)
pins on every part: 7 GND (power) hidden to GND, 14 VCC (power) hidden to VCC
part A pins: 1 A (in), 2 Y (oc)
part B pins: 3 A (in), 4 Y (oc)
part C pins: 5 A (in), 6 Y (oc)
part D pins: 8 Y (oc), 9 A (in)
part E pins: 10 Y (oc), 11 A (in)
part F pins: 12 Y (oc), 13 A (in)

## Test point
designator TP?  (value not drawn)
footprint PAD_80D_052H
pins: 1 TP "Test point"

## TPS3836K33DBVT
designator U?
footprint SOT-23-5
pins: 1 CT, 2 GND (power), 3 ~{MR} (in), 4 ~{Reset} (out), 5 VDD (power)

## USB
designator J?, comment USB_B
footprint USB_B (Footprint not found)
pins: 1, 2, 3, 4, E1, E2